# EAGLE library part USB-6PIN (library Header and Connector)
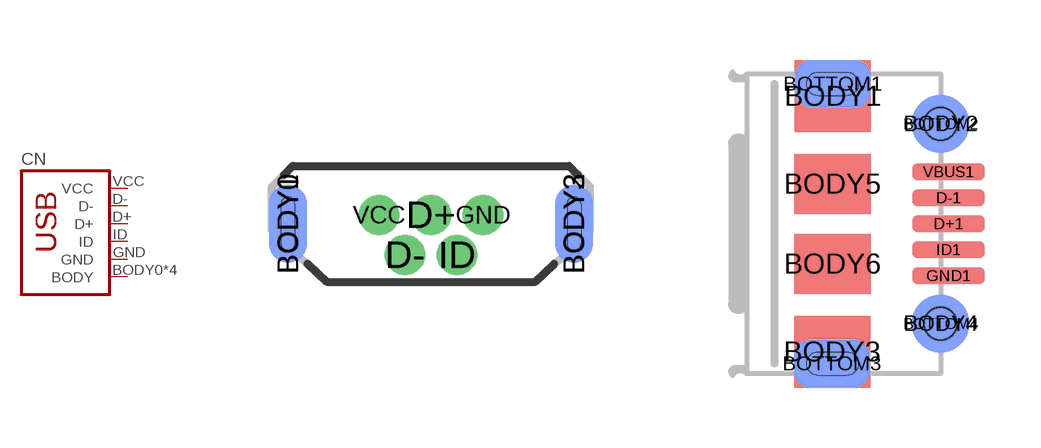
[diagram p20: symbol with the pads of USB-MICRO-B; footprints USB-MICRO-B, USB-MICRO-B-REC]

Designator prefix CN

## USB-6PIN_TH (CYTRON-PC: CN-USB-UB; DESC: USB Micro B)  [USB-MICRO-B]
BODY0  BODY  pas
BODY1  BODY  pas
BODY2  BODY  pas
BODY3  BODY  pas
D+  D+  pas
D-  D-  pas
GND  GND  pas
ID  ID  pas
VCC  VCC  pas

## USB-6PIN_(MICRO-B-RA) (CYTRON-PC: S-CN-USB-UB; DESC: USB Micro B (SMD))  [USB-MICRO-B-REC]
BODY1  BODY  pas
BODY2  BODY  pas
BODY3  BODY  pas
BODY4  BODY  pas
BODY5  BODY  pas
BODY6  BODY  pas
D+1  D+  pas
D-1  D-  pas
GND1  GND  pas
ID1  ID  pas
VBUS1  VCC  pas

## Footprint USB-MICRO-B (pad centres in mm)
smd 0.95 x 1.95: BODY0 -3.575,0; BODY2 3.575,0
smd 0.95 x 1.95 bottom: BODY1 -3.575,0; BODY3 3.575,0
drill 0.5 pad 0.8: D+ 0,0.22; D- -0.65,-0.78; GND 1.3,0.22; ID 0.65,-0.78; VCC -1.3,0.22

## Footprint USB-MICRO-B-REC (pad centres in mm)
USB Miicro B Receptacle Product Code: Size: 7.5 x 5.0 mm Created by: Tony
smd 1.9 x 1.8: BODY1 0.01,3.2; BODY3 -0.01,-3.2
smd 1.448 x 1.448: BODY2 2.7,2.5; BODY4 2.7,-2.5
smd 1.9 x 1.5: BODY5 0,1; BODY6 0,-1
smd 1.9 x 1.2 bottom: BOTTOM1 0.01,3.5; BOTTOM3 -0.01,-3.5
smd 1.448 x 1.448 bottom: BOTTOM2 2.7,2.5; BOTTOM4 2.7,-2.5
smd 1.8 x 0.4: D+1 2.9,0; D-1 2.9,0.65; GND1 2.9,-1.3; ID1 2.9,-0.65; VBUS1 2.9,1.3
hole 0.813 at 2.7,-2.5
hole 0.813 at 2.7,2.5